# Altium footprint library PcbLib1.PcbLib: 28 footprints (part 2 of 2)
Each footprint in its own frame and in the unit in brackets; x right, y up, seen from the top. Pads: shape width x height; smd on the part's side, far side on the other; paste and mask are expansions set on the pad; w line width, h text height; cw(c..) or ccw(c..) is an arc to the next point about the centre after c.
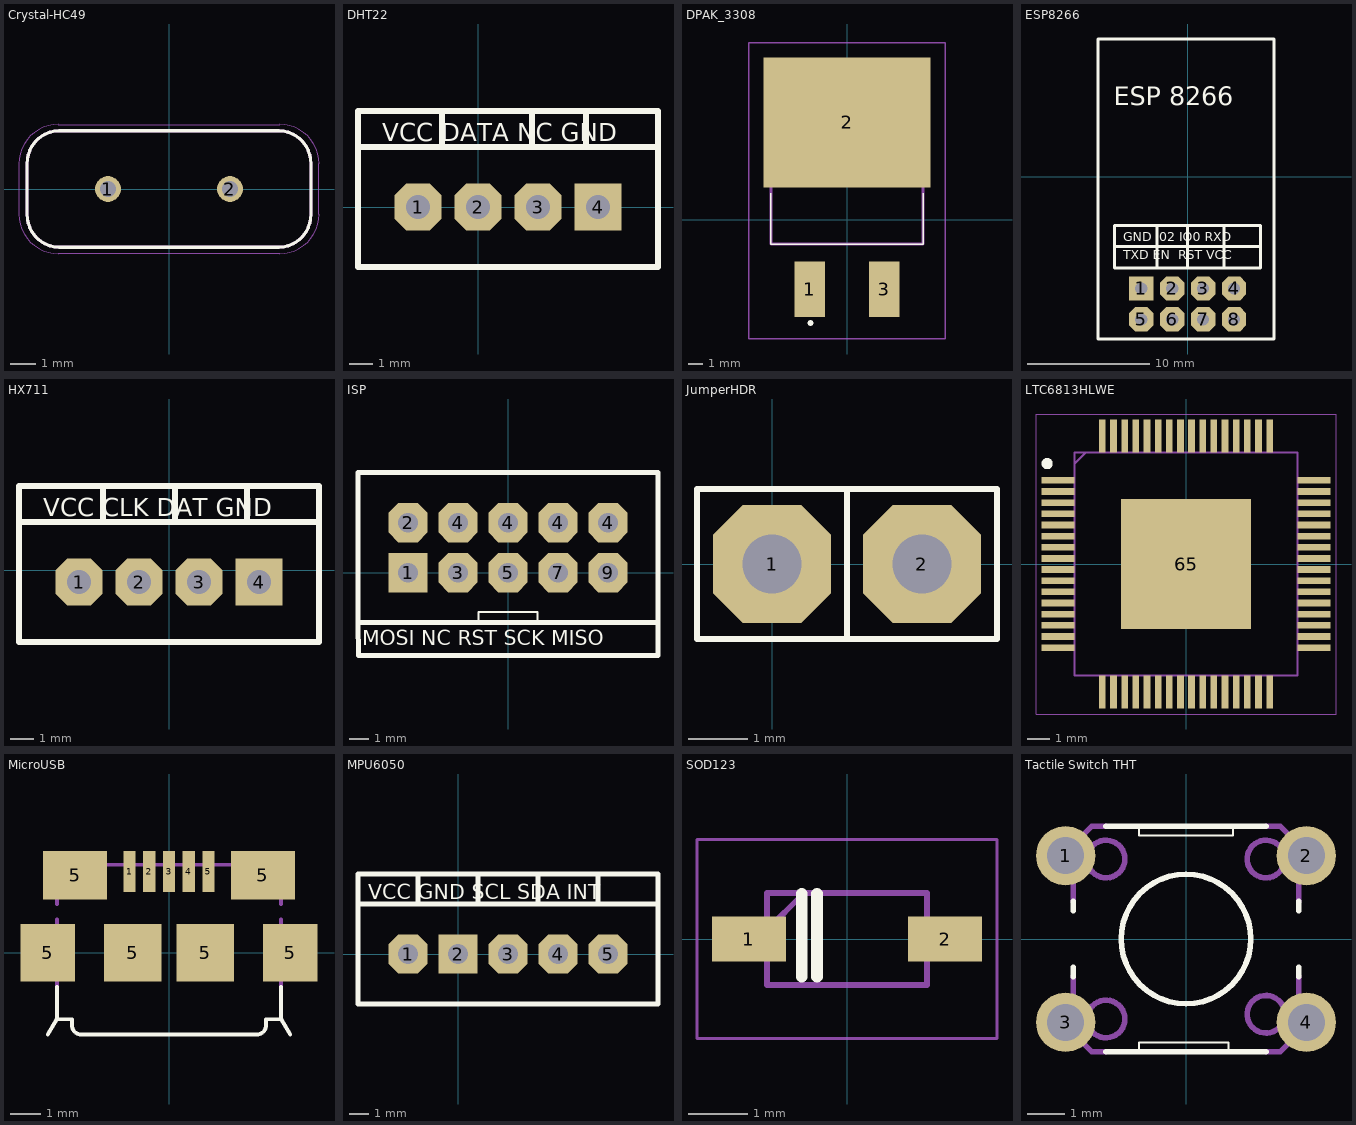
[diagram p1: the footprints below, top view; thin cyan lines are the x and y axes]

## Crystal-HC49 [mm]
pads (2):
  round 1.03 hole 0.63: 1(-2.44,0) 2(2.44,0)
Top Overlay:
  lines w0.127: -5.675,-1.012 ccw(c-4.38,-1.035) -4.403,-2.33 ; -5.675,-1.01 -5.675,1.01 ; -5.675,1.012 cw(c-4.38,1.035) -4.403,2.33 ; -4.405,-2.33 4.405,-2.33 ; -4.405,2.33 4.405,2.33 ; 4.403,-2.33 ccw(c4.38,-1.035) 5.675,-1.012 ; 4.403,2.33 cw(c4.38,1.035) 5.675,1.012 ; 5.675,-1.01 5.675,1.01
Mechanical 13:
  lines w0.127: -5.675,-1.012 ccw(c-4.38,-1.035) -4.403,-2.33 ; -5.675,-1.01 -5.675,1.01 ; -5.675,1.012 cw(c-4.38,1.035) -4.403,2.33 ; -4.405,-2.33 4.405,-2.33 ; -4.405,2.33 4.405,2.33 ; 4.403,-2.33 ccw(c4.38,-1.035) 5.675,-1.012 ; 4.403,2.33 cw(c4.38,1.035) 5.675,1.012 ; 5.675,-1.01 5.675,1.01
Mechanical 15:
  lines w0.05: -6,-1.01 ccw(c-4.43,-1.01) -4.43,-2.58 4.43,-2.58 ccw(c4.43,-1.01) 6,-1.01 6,1.01 ccw(c4.43,1.01) 4.43,2.58 -4.43,2.58 ccw(c-4.43,1.01) -6,1.01 -6,-1.01
3D body "User Library-HC-49_LT_THT_16MHz.STEP": height 1.49, standoff -4.1, extent -5.675,-2.325 5.675,2.325

## DHT22 [mm]
pads (4):
  oct 2x2 hole 1: 1(-2.54,0) 2(0,0) 3(2.54,0)
  rect 2x2 hole 1: 4(5.08,0)
Top Overlay:
  lines w0.254: -5.08,2.54 -5.08,-2.54 7.62,-2.54 7.62,2.54 ; -5.08,2.54 7.62,2.54 ; -5.08,2.54 -5.08,4.064 -1.524,4.064 ; -1.524,4.064 -1.524,2.54 -1.524,3.81 -1.524,4.064 ; -1.524,4.064 2.286,4.064 ; 2.286,4.064 2.286,2.794 2.286,2.54 2.286,4.064 ; 2.286,4.064 4.572,4.064 ; 4.572,4.064 4.572,2.54 4.572,4.064 ; 4.572,4.064 7.62,4.064 7.62,2.54
  text "VCC DATA NC GND" at -4.064,2.794 h0.76

## DPAK_3308 [mm]
pads (3):
  rect 2.08x3.81 smd: 1(-2.54,-4.75) 3(2.54,-4.75)
  rect 11.43x8.89 smd: 2(0,6.68)
Top Overlay:
  lines w0.1: -5.207,1.845 -5.207,-1.655 5.207,-1.655 5.207,1.845
  lines w0.2: -2.6,-7.055 ccw(c-2.5,-7.055) -2.4,-7.055 ccw(c-2.5,-7.055) -2.6,-7.055
Mechanical 13:
  lines w0.2: -5.207,-1.655 -5.207,7.155 5.207,7.155 5.207,-1.655 -5.207,-1.655
Mechanical 15:
  lines w0.1: -6.715,-8.155 6.715,-8.155 6.715,12.125 -6.715,12.125 -6.715,-8.155

## ESP8266 [mm]
pads (8):
  rect 2x2 hole 1: 1(-3.8,-9.185)
  oct 2x2 hole 1: 2(-1.26,-9.185) 3(1.28,-9.185) 4(3.82,-9.185) 5(-3.8,-11.725) 6(-1.26,-11.725) 7(1.28,-11.725) 8(3.82,-11.725)
Top Overlay:
  lines w0.254: -6,-5.75 6,-5.75 ; -2.5,-7.5 -2.5,-4 ; 0,-7.5 0,-4 ; 3,-7.5 3,-4 ; -7.366,-13.335 7.112,-13.335 7.112,11.303 -7.366,11.303 -7.366,-13.335 ; -6,-7.5 -6,-4 6,-4 6,-7.5 -6,-7.5
  text "TXD EN  RST VCC" at -5.297,-6.797 h0.76
  text "GND I02 IO0 RXD" at -5.297,-5.297 h0.76
  text "ESP 8266" at -6.071,5.854 h1.52
3D body "User Library-ESP8266 ESP-01.step": height 9.88, standoff -1.8, extent -7.25,-13.175 7.25,11.625

## HX711 [mm]
pads (4):
  oct 2x2 hole 1: 1(-3.81,-0.508) 2(-1.27,-0.508) 3(1.27,-0.508)
  rect 2x2 hole 1: 4(3.81,-0.508)
Top Overlay:
  lines w0.254: 0.254,2.032 0.254,3.556 ; -6.35,2.032 -6.35,-3.048 6.35,-3.048 6.35,2.032 ; -6.35,2.032 6.35,2.032 ; -6.35,2.032 -6.35,3.556 -2.794,3.556 ; -2.794,3.556 -2.794,2.032 -2.794,3.302 -2.794,3.556 ; -2.794,3.556 0.254,3.556 ; 0.254,3.556 3.302,3.556 ; 3.302,3.556 3.302,2.032 3.302,3.556 ; 3.302,3.556 6.35,3.556 6.35,2.032
  text "VCC CLK DAT GND" at -5.334,2.286 h0.76

## ISP [mm]
pads (10):
  rect 2x2 hole 1: 1(-5.08,0)
  oct 2x2 hole 1: 2(-5.08,2.54) 3(-2.54,0) 4(-2.54,2.54) 4(0,2.54) 4(2.54,2.54) 4(5.08,2.54) 5(0,0) 7(2.54,0) 9(5.08,0)
Top Overlay:
  lines w0.1: -1.5,-2.5 -1.5,-2 1.5,-2 1.5,-2.5
  lines w0.254: -7.62,-2.54 7.62,-2.54 ; -7.62,-2.54 -7.62,5.08 7.62,5.08 7.62,-2.54 ; -7.62,-2.54 -7.6,-4.2 7.62,-4.2 7.62,-2.54
  text "MOSI NC RST SCK MISO" at -7.397,-3.697 h0.76

## JumperHDR [mm]
pads (2):
  oct 2x2 hole 1: 1(0,0) 2(2.54,0)
Top Overlay:
  lines w0.1: 1.27,-1.27 3.81,-1.27 3.81,1.27 3.556,1.27 1.27,1.27 ; 1.27,-1.27 -1.27,-1.27 -1.27,1.27 1.27,1.27 ; 1.27,-1.27 1.27,1.27

## LTC6813HLWE [mm]
pads (65):
  rect 1.475x0.3 smd: 1(-5.738,3.75) 2(-5.738,3.25) 3(-5.738,2.75) 4(-5.738,2.25) 5(-5.738,1.75) 6(-5.738,1.25) 7(-5.738,0.75) 8(-5.738,0.25) 9(-5.738,-0.25) 10(-5.738,-0.75) 11(-5.738,-1.25) 12(-5.738,-1.75) 13(-5.738,-2.25) 14(-5.738,-2.75) 15(-5.738,-3.25) 16(-5.738,-3.75) 33(5.738,-3.75) 34(5.738,-3.25) 35(5.738,-2.75) 36(5.738,-2.25) 37(5.738,-1.75) 38(5.738,-1.25) 39(5.738,-0.75) 40(5.738,-0.25) 41(5.738,0.25) 42(5.738,0.75) 43(5.738,1.25) 44(5.738,1.75) 45(5.738,2.25) 46(5.738,2.75) 47(5.738,3.25) 48(5.738,3.75)
  rect 0.3x1.475 smd: 17(-3.75,-5.738) 18(-3.25,-5.738) 19(-2.75,-5.738) 20(-2.25,-5.738) 21(-1.75,-5.738) 22(-1.25,-5.738) 23(-0.75,-5.738) 24(-0.25,-5.738) 25(0.25,-5.738) 26(0.75,-5.738) 27(1.25,-5.738) 28(1.75,-5.738) 29(2.25,-5.738) 30(2.75,-5.738) 31(3.25,-5.738) 32(3.75,-5.738) 49(3.75,5.738) 50(3.25,5.738) 51(2.75,5.738) 52(2.25,5.738) 53(1.75,5.738) 54(1.25,5.738) 55(0.75,5.738) 56(0.25,5.738) 57(-0.25,5.738) 58(-0.75,5.738) 59(-1.25,5.738) 60(-1.75,5.738) 61(-2.25,5.738) 62(-2.75,5.738) 63(-3.25,5.738) 64(-3.75,5.738)
  rect 5.84x5.84 smd: 65(0,0)
Top Overlay:
  circle w0.25: c-6.225,4.5 r0.125
Mechanical 13:
  lines w0.1: -5,4.5 -4.5,5 ; -5,-5 5,-5 5,5 -5,5 -5,-5
Mechanical 15:
  lines w0.05: -6.725,-6.725 6.725,-6.725 6.725,6.725 -6.725,6.725 -6.725,-6.725
3D body "LTC6813HLWE-1#3ZZPBF.stp": height 1.6, standoff 0, extent -6,-6 6,6

## MicroUSB [mm]
pads (11):
  rect 0.4x1.35 smd: 1(-1.3,2.675) 2(-0.65,2.675) 3(0,2.675) 4(0.65,2.675) 5(1.3,2.675)
  rect 1.8x1.9 smd: 5(-4,0) 5(4,0)
  rect 2.1x1.6 smd: 5(-3.1,2.55) 5(3.1,2.55)
  rect 1.9x1.9 smd: 5(-1.2,0) 5(1.2,0)
Top Overlay:
  lines w0.127: -4,-2.7 -3.7,-2.2 ; -3.7,-1.13 -3.7,-2.2 ; 3.7,-1.13 3.7,-2.2 ; 4,-2.7 3.7,-2.2 ; -3.7,-2.2 -3.2,-2.2 -3.2,-2.4 ccw(c-2.9,-2.4) -2.9,-2.7 2.9,-2.7 ccw(c2.9,-2.4) 3.2,-2.4 3.2,-2.2 3.7,-2.2
Mechanical 13:
  lines w0.127: -3.7,-1.1 -3.7,1.1 ; -3.7,1.6 -3.7,2.9 3.7,2.9 3.7,1.6 ; 3.7,-1.1 3.7,1.1
3D body "User Library-ZX62D-AB-5P8.step": height 2.76, standoff -0.64, extent -4.325,-2.8 4.325,3.099

## MPU6050 [mm]
pads (5):
  oct 2x2 hole 1: 1(-2.54,0) 3(2.54,0) 4(5.08,0) 5(7.62,0)
  rect 2x2 hole 1: 2(0,0)
Top Overlay:
  lines w0.254: -2.032,2.54 -2.032,4.064 ; 1.016,2.54 1.016,4.064 ; 4.064,2.54 4.064,4.064 ; 7.112,2.54 7.112,4.064 ; 10.16,2.54 7.62,2.54 -5.08,2.54 ; -5.08,2.54 -5.08,4.064 -1.524,4.064 1.524,4.064 4.572,4.064 10.16,4.064 10.16,-2.54 -5.08,-2.54 -5.08,2.54
  text "VCC GND SCL SDA INT" at -4.572,2.794 h0.76

## SOD123 [mm]
pads (2):
  rect 1.25x0.75 smd: 1(-1.65,0) 2(1.65,0)
Top Overlay:
  lines w0.2: -0.762,-0.635 -0.762,0.762 ; -0.508,-0.635 -0.508,0.762
Mechanical 13:
  lines w0.1: -1.35,0.15 -0.725,0.775 ; -1.35,-0.775 -1.35,0.775 1.35,0.775 1.35,-0.775 -1.35,-0.775
Mechanical 15:
  lines w0.05: -2.525,-1.675 -2.525,1.675 2.525,1.675 2.525,-1.675 -2.525,-1.675
3D body "1N4148W-G3-08.stp": height 1.35, standoff 0, extent -1.85,-0.775 1.85,0.775

## Tactile Switch THT [mm]
pads (4):
  round 1.6 hole 1: 1(-3.25,2.25) 2(3.25,2.25) 3(-3.25,-2.25) 4(3.25,-2.25)
Top Overlay:
  circle w0.152: c0,0 r1.75
  lines w0.051: -1.27,-3.048 -1.27,-2.794 1.143,-2.794 1.143,-3.048 ; -1.27,3.048 -1.27,2.794 1.27,2.794 1.27,3.048
  lines w0.152: -3.048,-1.016 -3.048,-0.762 ; -3.048,0.762 -3.048,1.016 ; -2.159,-3.048 -1.27,-3.048 1.143,-3.048 2.159,-3.048 ; -2.159,3.048 -1.27,3.048 1.27,3.048 2.159,3.048 ; 3.048,-1.016 3.048,-0.762 ; 3.048,0.762 3.048,1.016
Mechanical 13:
  circle w0.152: c-2.159,2.159 r0.508
  circle w0.152: c2.159,2.159 r0.508
  circle w0.152: c2.159,-2.032 r0.508
  circle w0.152: c-2.159,-2.159 r0.508
  lines w0.152: -3.048,-1.016 -3.048,-2.54 -2.54,-3.048 -2.159,-3.048 ; -3.048,1.016 -3.048,2.54 -2.54,3.048 -2.159,3.048 ; 2.159,-3.048 2.54,-3.048 3.048,-2.54 3.048,-1.016 ; 2.159,3.048 2.54,3.048 3.048,2.54 3.048,1.016
3D body "User Library-diptronics tactile dts-63k.step": height 7, standoff -3.5, extent -3.899,-3.1 4.001,3.1